# Altium schematic symbol library Oscill.SchLib: 19 symbols
Pins are listed as number, name and electrical type; pins without a type are passive.

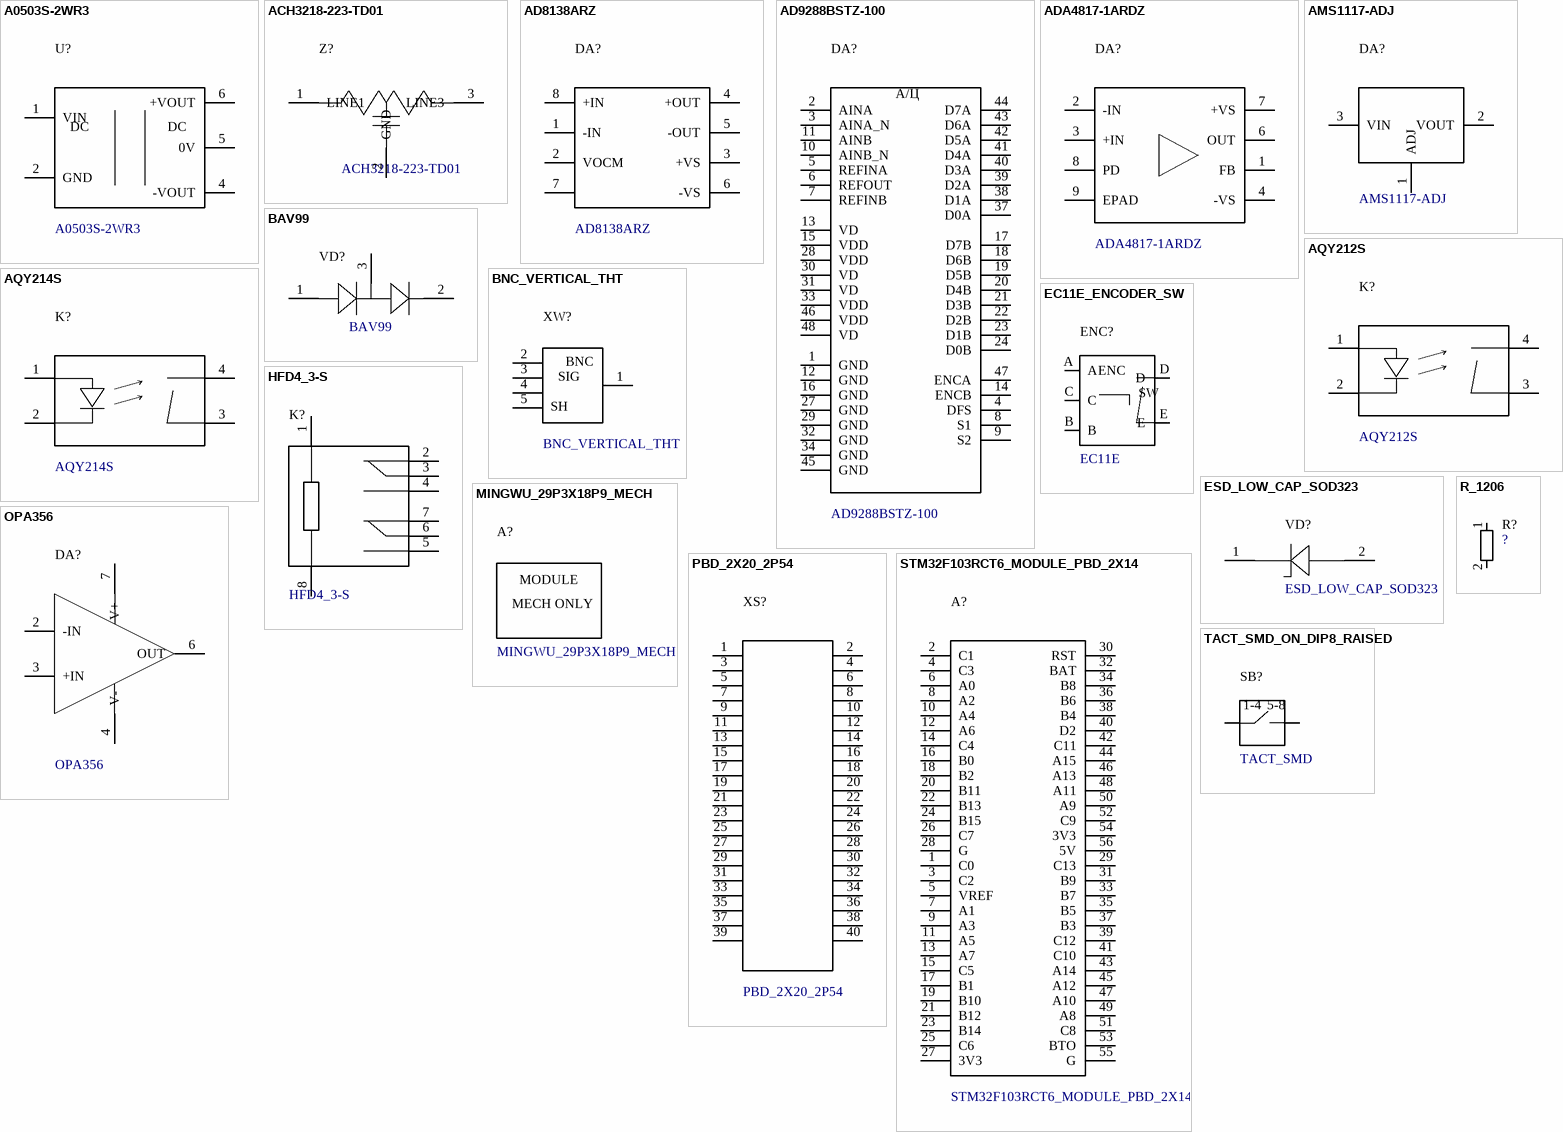
[diagram p0: symbols A0503S-2WR3 to TACT_SMD_ON_DIP8_RAISED]

## A0503S-2WR3
designator U?
YLPTEC 2 W isolated DC/DC, 5 V input, +/-3.3 V dual output
footprint A0503S-2WR3_SIP5
pins: 1 VIN, 2 GND, 4 -VOUT, 5 0V, 6 +VOUT
text: DC

## ACH3218-223-TD01
designator Z?
TDK 22 nF three-terminal T-type EMI filter, 20 V, 1.5 A
footprint ACH3218_3TERM_FILTER
pins: 1 LINE1, 2 GND, 3 LINE3

## AD8138ARZ
designator DA?
ADI AD8138ARZ low distortion differential ADC driver, SOIC-8 R-8
footprint AD8138ARZ_SOIC8
pins: 1 -IN, 2 VOCM, 3 +VS, 4 +OUT, 5 -OUT, 6 -VS, 7, 8 +IN

## AD9288BSTZ-100
designator DA?
Analog Devices dual 8-bit ADC, 100 MSPS, LQFP-48 ST-48
footprint AD9288BSTZ-100_LQFP48
pins: 1 GND, 2 AINA, 3 AINA_N, 4 DFS, 5 REFINA, 6 REFOUT, 7 REFINB, 8 S1, 9 S2, 10 AINB_N, 11 AINB, 12 GND, 13 VD, 14 ENCB, 15 VDD, 16 GND, 17 D7B, 18 D6B, 19 D5B, 20 D4B, 21 D3B, 22 D2B, 23 D1B, 24 D0B, 27 GND, 28 VDD, 29 GND, 30 VD, 31 VD, 32 GND, 33 VDD, 34 GND, 37 D0A, 38 D1A, 39 D2A, 40 D3A, 41 D4A, 42 D5A, 43 D6A, 44 D7A, 45 GND, 46 VDD, 47 ENCA, 48 VD
text: А/Ц

## ADA4817-1ARDZ
designator DA?
ADI ADA4817-1ARDZ FastFET op amp, RD-8-4 SOIC-8 with EP
footprint ADA4817-1ARDZ_SOIC8_EP
pins: 1 FB, 2 -IN, 3 +IN, 4 -VS, 6 OUT, 7 +VS, 8 PD, 9 EPAD

## AMS1117-ADJ
designator DA?
AMS1117 adjustable voltage regulator, SOT-223; tab = VOUT
footprint AMS1117-ADJ_SOT223
pins: 1 ADJ, 2 VOUT, 3 VIN

## AQY212S
designator K?
Panasonic PhotoMOS GU SOP4, 1 Form A
footprint AQY212S_SOP4
pins: 1, 2, 3, 4

## AQY214S
designator K?
Panasonic PhotoMOS GU SOP4, 1 Form A
footprint AQY214S_SOP4
pins: 1, 2, 3, 4

## BAV99
designator VD?
Nexperia BAV99 dual series diode, SOT23
footprint BAV99_SOT23
pins: 1 A1, 2 K2, 3 K1_A2

## BNC_VERTICAL_THT
designator XW?
Generic vertical BNC jack, five through-hole terminals
footprint BNC_VERTICAL_THT_5PIN
pins: 1 SIGNAL, 2 SHIELD, 3 SHIELD, 4 SHIELD, 5 SHIELD
text: BNC; SIG; SH

## EC11E_ENCODER_SW
designator ENC?, comment EC11E
Alps Alpine EC11E vertical incremental encoder with one push-on switch
footprint EC11E_ENCODER_SW
pins: A, B, C, D, E
text: ENC; SW

## ESD_LOW_CAP_SOD323
designator VD?
Universal unidirectional low capacitance ESD diode, SOD323
footprint ESD_LOW_CAP_SOD323
pins: 1 K, 2 A

## HFD4_3-S
designator K?
Hongfa HFD4/3-S monostable DPDT relay, standard SMT terminal
footprint HFD4_3_S_SMT
pins: 1 COIL+, 2, 3, 4, 5, 6, 7, 8 COIL-

## MINGWU_29P3X18P9_MECH
designator A?
Mechanical-only Mingwudianzi module; no electrical pins
footprint MINGWU_29P3X18P9_MECH
text: MODULE; MECH ONLY

## OPA356
designator DA?
TI OPA356AID, SOIC-8 (D), 1.27 mm pitch
footprint OPA356_SOIC8
pins: 2 -IN, 3 +IN, 4 V-, 6 OUT, 7 V+

## PBD_2X20_2P54
designator XS?
PBD-40 vertical 2x20 2.54 mm female through-hole socket
footprint PBD_2X20_2P54_THT
pins: 1, 2, 3, 4, 5, 6, 7, 8, 9, 10, 11, 12, 13, 14, 15, 16, 17, 18, 19, 20, 21, 22, 23, 24, 25, 26, 27, 28, 29, 30, 31, 32, 33, 34, 35, 36, 37, 38, 39, 40

## R_1206
designator R?, comment ?
Generic SMD resistor, 1206/3216 package; set Value on placement; Value: ?
footprint R_1206
pins: 1, 2

## STM32F103RCT6_MODULE_PBD_2X14
designator A?
STM32F103RCT6 core board, 56 pins, two PBD 2x14 sockets
footprint STM32F103RCT6_MODULE_PBD_2X14
pins: 1 C0, 2 C1, 3 C2, 4 C3, 5 VREF, 6 A0, 7 A1, 8 A2, 9 A3, 10 A4, 11 A5, 12 A6, 13 A7, 14 C4, 15 C5, 16 B0, 17 B1, 18 B2, 19 B10, 20 B11, 21 B12, 22 B13, 23 B14, 24 B15, 25 C6, 26 C7, 27 3V3, 28 G, 29 C13, 30 RST, 31 B9, 32 BAT, 33 B7, 34 B8, 35 B5, 36 B6, 37 B3, 38 B4, 39 C12, 40 D2, 41 C10, 42 C11, 43 A14, 44 A15, 45 A12, 46 A13, 47 A10, 48 A11, 49 A8, 50 A9, 51 C8, 52 C9, 53 BTO, 54 3V3, 55 G, 56 5V

## TACT_SMD_ON_DIP8_RAISED
designator SB?, comment TACT_SMD
Custom raised NO tactile switch; pins 1-4 common, pins 5-8 common
footprint TACT_SMD_ON_DIP8_RAISED
pins: 1 A, 2 A, 3 A, 4 A, 5 B, 6 B, 7 B, 8 B
text: 1-4; 5-8